# EAGLE library part S16B-PHDSS (library con-jst-phd)
JST PHD series header 2.00mm pitch disconnectable crimp style connectors, horizontal (side entry type), 16 pins
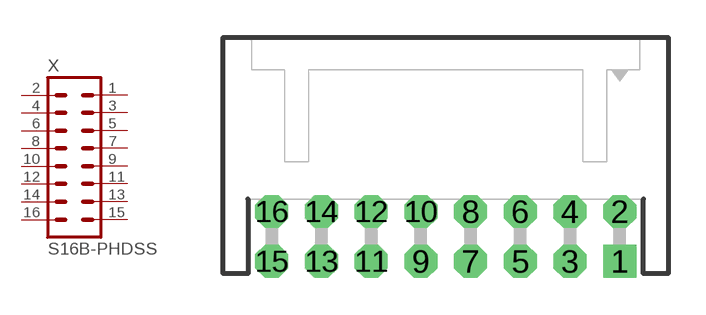
[diagram p18: symbol with the pads of S16B-PHDSS; footprint S16B-PHDSS]

Designator prefix X

## S16B-PHDSS  [S16B-PHDSS]
1  1  pas
2  2  pas
3  3  pas
4  4  pas
5  5  pas
6  6  pas
7  7  pas
8  8  pas
9  9  pas
10  10  pas
11  11  pas
12  12  pas
13  13  pas
14  14  pas
15  15  pas
16  16  pas

## S16B-PHDSS-B  [S16B-PHDSS]
Pads as for S16B-PHDSS

## Footprint S16B-PHDSS (pad centres in mm)
JST PHD series header 2.00mm pitch disconnectable crimp style connectors, through-hole horizontal (top entry type), 16 pins
drill 0.7 pad 1.321 square: 1 7,-1
drill 0.7 pad 1.321 octagon: 2 7,1; 3 5,-1; 4 5,1; 5 3,-1; 6 3,1; 7 1,-1; 8 1,1; 9 -1,-1; 10 -1,1; 11 -3,-1; 12 -3,1; 13 -5,-1; 14 -5,1; 15 -7,-1; 16 -7,1